# EAGLE library part A3977 (library Stofer)
MICROSTEPPING DMOS DRIVER WITH TRANSLATOR Source: 3977.pdf
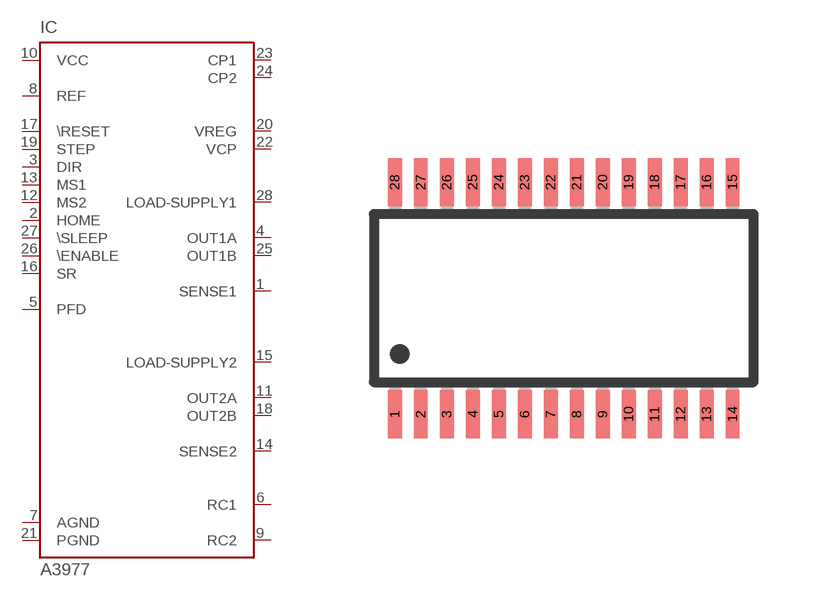
[diagram p16: symbol with the pads of TSSOP28; footprint TSSOP28]

Designator prefix IC

## A3977  [TSSOP28]
1  SENSE1  in
2  HOME  in
3  DIR  in
4  OUT1A  out
5  PFD  in
6  RC1  in
7  AGND  pwr
8  REF  in
9  RC2  in
10  VCC  pwr
11  OUT2A  out
12  MS2  in
13  MS1  in
14  SENSE2  in
15  LOAD-SUPPLY2  in
16  SR  in
17  \RESET  in
18  OUT2B  out
19  STEP  in
20  VREG  in
21  PGND  pwr
22  VCP  in
23  CP1  in
24  CP2  in
25  OUT1B  out
26  \ENABLE  in
27  \SLEEP  in
28  LOAD-SUPPLY1  in

## Footprint TSSOP28 (pad centres in mm)
28-Lead TSSOP Package RU-28
smd 0.35 x 1.2: 1 -4.225,-2.9; 2 -3.575,-2.9; 3 -2.925,-2.9; 4 -2.275,-2.9; 5 -1.625,-2.9; 6 -0.975,-2.9; 7 -0.325,-2.9; 8 0.325,-2.9; 9 0.975,-2.9; 10 1.625,-2.9; 11 2.275,-2.9; 12 2.925,-2.9; 13 3.575,-2.9; 14 4.225,-2.9; 15 4.225,2.9; 16 3.575,2.9; 17 2.925,2.9; 18 2.275,2.9; 19 1.625,2.9; 20 0.975,2.9; 21 0.325,2.9; 22 -0.325,2.9; 23 -0.975,2.9; 24 -1.625,2.9; 25 -2.275,2.9; 26 -2.925,2.9; 27 -3.575,2.9; 28 -4.225,2.9